# Altium footprint library OpAmp_Linear_Technology_ LTC6269HDD#PBF_500Mhz.PcbLib: 1 footprints
Each footprint in its own frame and in the unit in brackets; x right, y up, seen from the top. Pads: shape width x height; smd on the part's side, far side on the other; paste and mask are expansions set on the pad; w line width, h text height; cw(c..) or ccw(c..) is an arc to the next point about the centre after c.
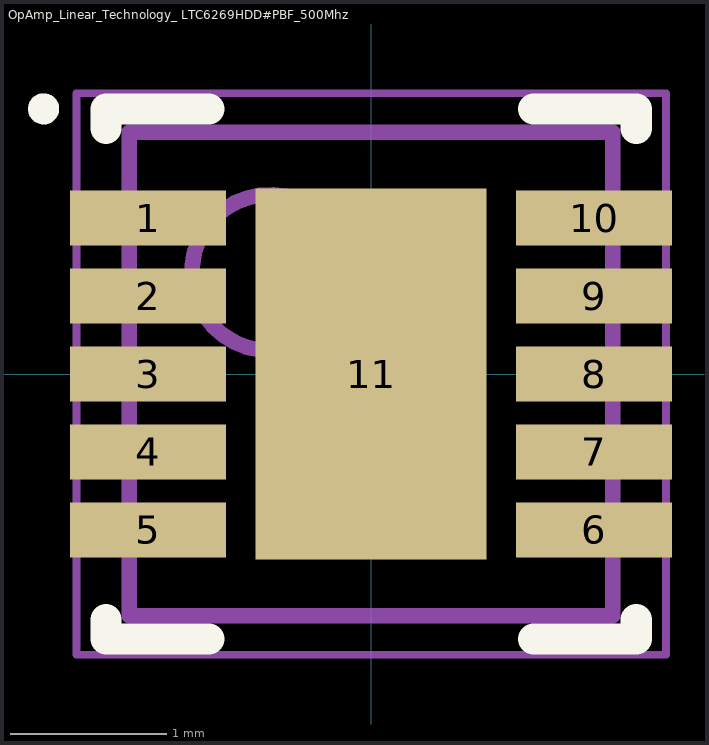
[diagram p0: the footprint, top view; thin cyan lines are the x and y axes]

## OpAmp_Linear_Technology_ LTC6269HDD#PBF_500Mhz [mm]
height 0.75
pads (11):
  rect 1x0.35 smd: 1(-1.43,1) 2(-1.43,0.5) 3(-1.43,0) 4(-1.43,-0.5) 5(-1.43,-1) 6(1.43,-1) 7(1.43,-0.5) 8(1.43,0) 9(1.43,0.5) 10(1.43,1)
  rect 1.48x2.38 smd: 11(0,0)
Top Overlay:
  circle w0.1: c-2.1,1.7 r0.05
  lines w0.2: -1.7,-1.575 -1.7,-1.7 -1.04,-1.7 ; -1.7,1.575 -1.7,1.7 -1.04,1.7 ; 1.04,-1.7 1.7,-1.7 1.7,-1.575 ; 1.04,1.7 1.7,1.7 1.7,1.575
Mechanical 13:
  circle w0.1: c-0.65,0.65 r0.5
  lines w0.1: -1.55,-1.55 1.55,-1.55 1.55,1.55 -1.55,1.55 -1.55,-1.55
Mechanical 15:
  lines w0.05: -1.89,-1.8 1.89,-1.8 1.89,1.8 -1.89,1.8 -1.89,-1.8
  lines w0.1: -0.5,0 0.5,0 ; 0,-0.5 0,0.5
3D body "PSON50P300X75_HS-11N.step": height 0.75, standoff 0, extent -1.551,-1.55 1.551,1.55